# Altium footprint library LH_Traffic_Lignt_V2.0.PcbLib: 49 footprints (part 4 of 4)
Each footprint in its own frame and in the unit in brackets; x right, y up, seen from the top. Pads: shape width x height; smd on the part's side, far side on the other; paste and mask are expansions set on the pad; w line width, h text height; cw(c..) or ccw(c..) is an arc to the next point about the centre after c.
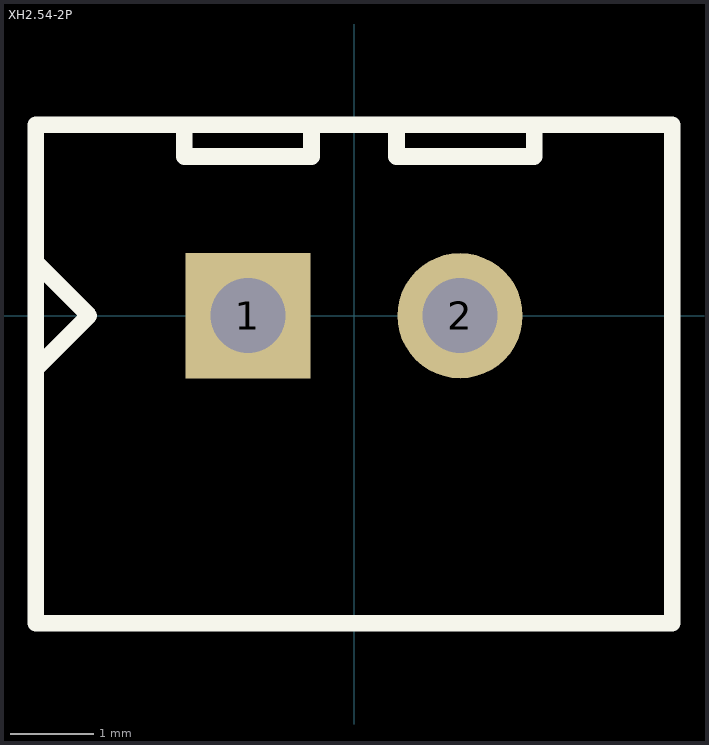
[diagram p3: the footprint, top view; thin cyan lines are the x and y axes]

## XH2.54-2P [mm] "XH2.54端子直针"
height 1.6
pads (2):
  rect 1.5x1.5 hole 0.9: 1(-1.27,0)
  round 1.5 hole 0.9: 2(1.27,0)
Top Overlay:
  lines w0.2: -3.81,-0.635 -3.175,0 -3.81,0.635 ; -2.032,2.286 -2.032,1.905 -0.508,1.905 -0.508,2.286 ; 0.508,2.286 0.508,1.905 2.159,1.905 2.159,2.286 ; -3.81,-3.683 3.81,-3.683 3.81,2.286 -3.81,2.286 -3.81,-3.683
3D body: height 1.5, standoff 0, extent -3.81,-3.683 3.81,2.159